# EAGLE library part 64902421022 (library Wire-to-Board)
WR-MPC4-4.20mm Male Dual Row Angled Header with Mounting Flanges for Screw-in Retention,24 pins=>Code : Con_WTB_MPC4_2_PCB_64902421022 <http://katalog.we-online.de/media/thumbs2/eican/thb_Con_WTB_MPC4_2_PCB_6490xx21022_pf2.jpg> Details see: http://katalog.we-online.de/en/em/649_0xx_210_22 Created 2014-06-06, Karrer Zheng 2014 (C) Würth Elektronik
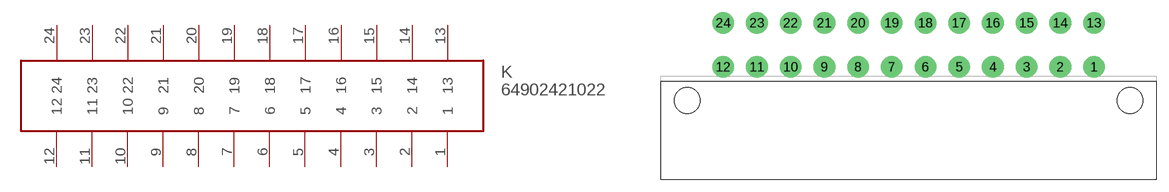
[diagram p320: symbol with the pads of 64902421022; footprint 64902421022]

Designator prefix K

## 64902421022  [64902421022]
1  1
2  2
3  3
4  4
5  5
6  6
7  7
8  8
9  9
10  10
11  11
12  12
13  13
14  14
15  15
16  16
17  17
18  18
19  19
20  20
21  21
22  22
23  23
24  24

## Footprint 64902421022 (pad centres in mm)
WR-MPC4-4.20mm Male Dual Row Angled Header with Mounting Flanges for Screw-in Retention,24 pins
drill 1.8: 1 24.695,-2.75; 2 20.495,-2.75; 3 16.295,-2.75; 4 12.095,-2.75; 5 7.895,-2.75; 6 3.695,-2.75; 7 -0.505,-2.75; 8 -4.705,-2.75; 9 -8.905,-2.75; 10 -13.105,-2.75; 11 -17.305,-2.75; 12 -21.505,-2.75; 13 24.695,2.75; 14 20.495,2.75; 15 16.295,2.75; 16 12.095,2.75; 17 7.895,2.75; 18 3.695,2.75; 19 -0.505,2.75; 20 -4.705,2.75; 21 -8.905,2.75; 22 -13.105,2.75; 23 -17.305,2.75; 24 -21.505,2.75
hole 3.2 at -26.005,-6.95
hole 3.2 at 29.195,-6.95